# Altium footprint library ResistorsTHD.PcbLib: 21 footprints (part 1 of 2)
Each footprint in its own frame and in the unit in brackets; x right, y up, seen from the top. Pads: shape width x height; smd on the part's side, far side on the other; paste and mask are expansions set on the pad; w line width, h text height; cw(c..) or ccw(c..) is an arc to the next point about the centre after c.
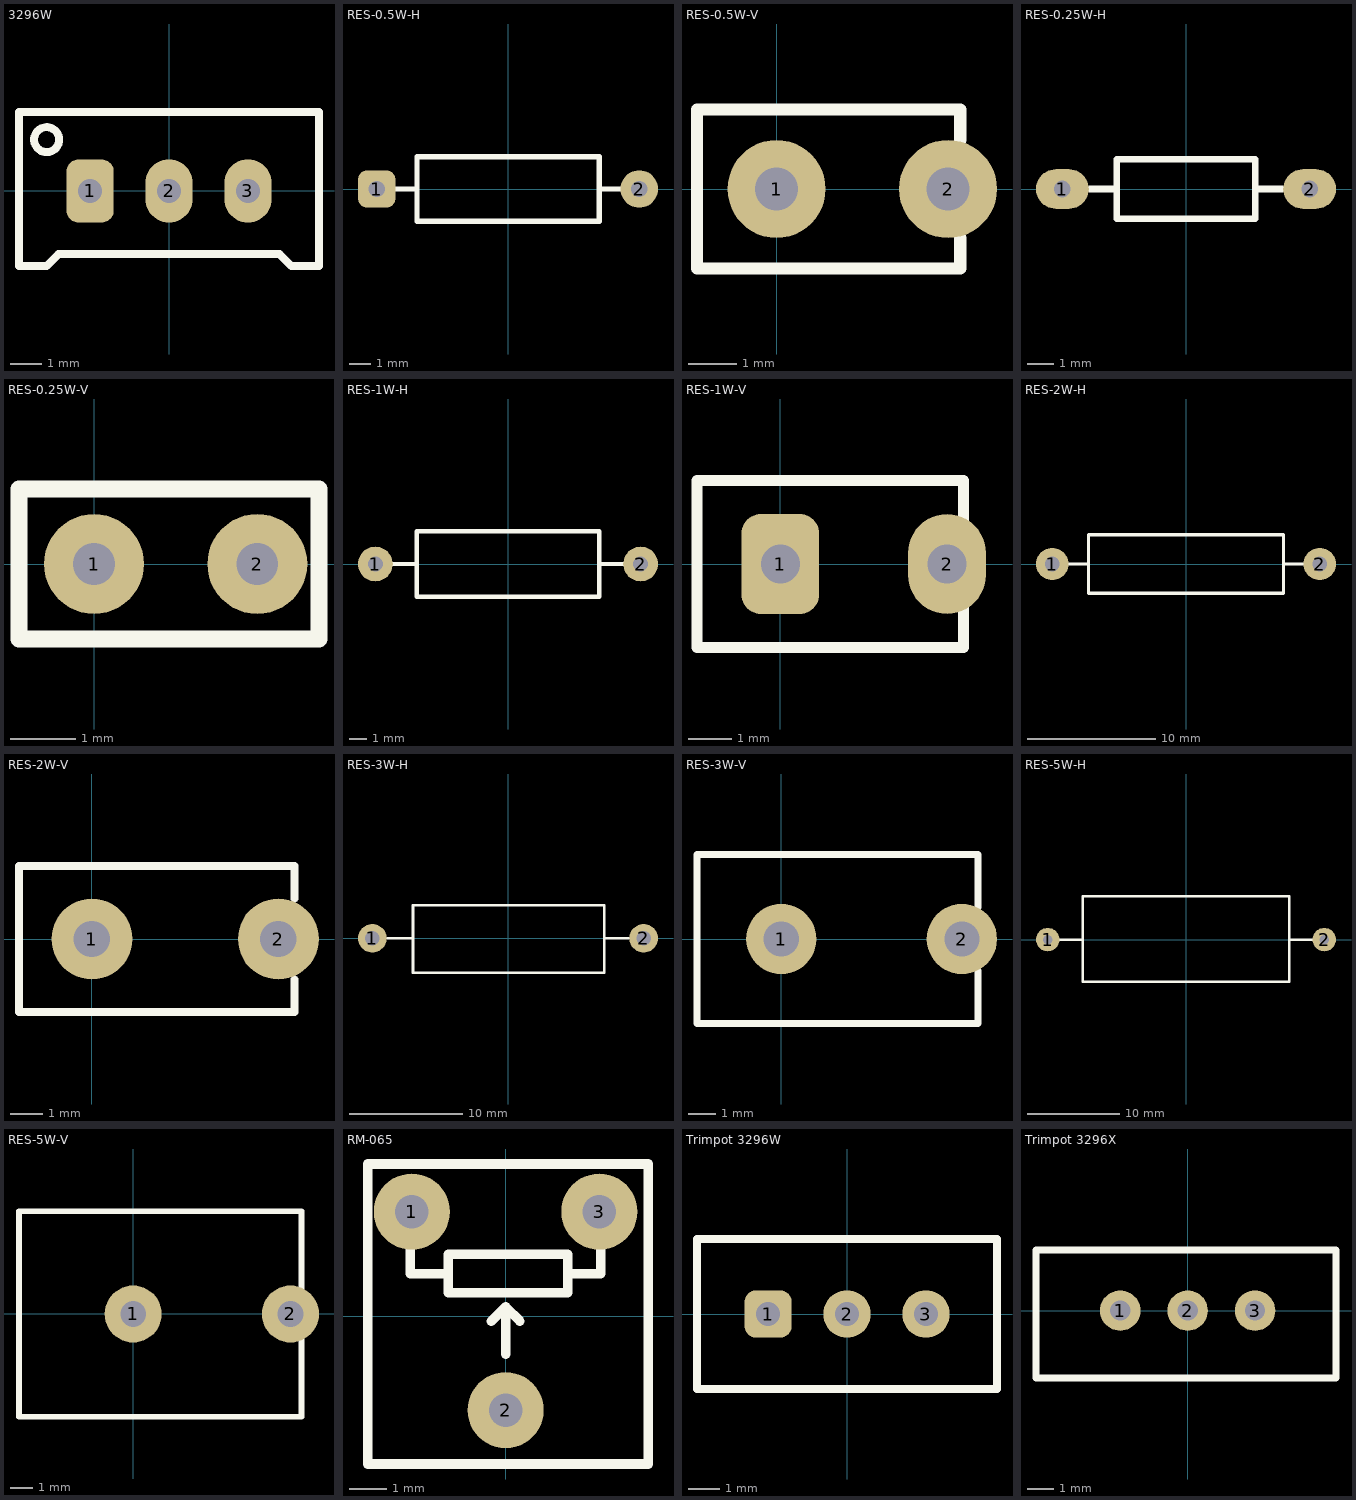
[diagram p0: the footprints below, top view; thin cyan lines are the x and y axes]

## 3296W [mil]
pads (3):
  rrect50% 60x80 hole 30: 1(-100,0)
  oval 60x80 hole 30: 2(0,0) 3(100,0)
Top Overlay:
  circle w10: c-155,65 r15.81
  lines w10: -190,-95 -190,100 190,100 190,-95 155,-95 140,-80 -140,-80 -155,-95 -190,-95
3D body "User Library-bourns 3296 pot.STEP": height 454.72, standoff -251.97, extent -187.6,-93.93 187.59,96.26

## RES-0.5W-H [mil]
pads (2):
  rrect50% 70x70 hole 30: 1(-245,0)
  round 70 hole 30: 2(245,0)
Top Overlay:
  lines w10: -230,0 -170,0 ; 170,0 230,0 ; -170,-60 170,-60 170,60 -170,60 -170,-60
3D body "Resistor_0.5W_H.STEP": height 142.99, standoff -137.75, extent -257.87,-62.99 257.88,63

## RES-0.5W-V [mil]
pads (2):
  round 80 hole 35: 1(0,0) 2(140,0)
Top Overlay:
  lines w10: 150,-40 150,-65 -65,-65 -65,65 150,65 150,40
3D body "Resistor_0.5W_V.STEP": height 452.87, standoff -110.12, extent -62.99,-62.99 151.84,63

## RES-0.25W-H [mil]
pads (2):
  oval 80x60 hole 25: 1(-187,0) 2(187,0)
Top Overlay:
  lines w10: -145,0 -110,0 ; 110,0 145,0 ; -105,-45 105,-45 105,45 -105,45 -105,-45
3D body "Resistor_0.25W_H.STEP": height 109.21, standoff -97.48, extent -198.82,-49.2 198.82,49.22

## RES-0.25W-V [mil]
pads (2):
  round 60 hole 25: 1(0,0) 2(98,0)
Top Overlay:
  lines w10: -45,-45 135,-45 135,45 -45,45 -45,-45
3D body "Resistor_0.25W_V.SLDPRT": height 333.82, standoff -71.69, extent -49.21,-49.21 110.24,49.22

## RES-1W-H [mil]
pads (2):
  round 80 hole 35: 1(-305,0) 2(305,0)
Top Overlay:
  lines w10: -265,0 -210,0 ; 212.5,0 265,0 ; -210,-75 210,-75 210,75 -210,75 -210,-75
3D body "Resistor_1W_H.STEP": height 178.74, standoff -214.46, extent -318.89,-78.73 318.9,78.75

## RES-1W-V [mil]
pads (2):
  rrect50% 70x90 hole 35: 1(0,0)
  oval 70x90 hole 35: 2(150,0)
Top Overlay:
  lines w10: 165,-40 165,-75 -75,-75 -75,75 165,75 165,40
3D body "Resistor_1W_V.SLDPRT": height 553.9, standoff -168.54, extent -78.73,-78.73 163.25,78.75

## RES-2W-H [mil]
pads (2):
  round 100 hole 45: 1(-412,0) 2(412,0)
Top Overlay:
  lines w10: -365,0 -300,0 ; 300,0 365,0 ; -300,-90 -300,90 300,90 300,-90 -300,-90
3D body "Resistor_2W_H.STEP": height 193.88, standoff -170.29, extent -433.06,-88.57 433.08,88.59

## RES-2W-V [mil]
pads (2):
  round 100 hole 45: 1(0,0) 2(230,0)
Top Overlay:
  lines w10: 250,-50 250,-90 -90,-90 -90,90 250,90 250,50
3D body "Resistor_2W_V.STEP": height 433.07, standoff -492.13, extent -88.87,-88.58 249.97,88.59

## RES-3W-H [mil]
pads (2):
  round 100 hole 50: 1(-472,0) 2(472,0)
Top Overlay:
  lines w10: -420,0 -330,0 ; 335,0 420,0 ; -330,-120 335,-120 335,115 -330,115 -330,-120
3D body "Resistor_3W_H.STEP": height 268.11, standoff -225.31, extent -492.12,-118.1 492.13,118.12

## RES-3W-V [mil]
pads (2):
  round 100 hole 50: 1(0,0) 2(257,0)
Top Overlay:
  lines w10: 280,-45 280,-120 -120,-120 -120,120 280,120 280,45
3D body "Resistor_3W_V.STEP": height 872.13, standoff -171.18, extent -118.1,-118.1 276.78,118.12

## RES-5W-H [mil]
pads (2):
  round 100 hole 40: 1(-590,0) 2(590,0)
Top Overlay:
  lines w10: -540,0 -440,0 ; 440,0 540,0 ; -440,-180 -440,185 440,185 440,-180 -440,-180
3D body "Resistor - 5W10RJ.STEP": height 380.43, standoff -320, extent -603.66,-185.04 605,185.04

## RES-5W-V [mil]
pads (2):
  round 100 hole 45: 1(0,0) 2(275.59,0)
Top Overlay:
  lines w10: 295,-45 295,-180 -200,-180 -200,180 295,180 295,45
3D body "Resistor_5W_V.STEP": height 982.28, standoff -295.28, extent -197,-176.33 293.16,178

## RM-065 [mil]
pads (3):
  round 80 hole 35: 1(-98.43,110) 2(0,-98.43) 3(98.43,110)
Top Overlay:
  lines w10: -100,75 -100,45 -60,45 ; -15,-5 0,10 ; 0,-40 0,10 ; 15,-5 0,10 ; 65,45 100,45 100,70 ; -145,-155 -145,160 150,160 150,-155 -145,-155 ; -60,25 -60,65 65,65 65,25 -60,25
3D body "User Library-RM-065.STEP": height 303.15, standoff -122.06, extent -127.95,-146.85 127.96,138.31

## Trimpot 3296W [mil]
pads (3):
  rrect50% 60x60 hole 30: 1(-100,0)
  round 60 hole 30: 2(0,0) 3(100,0)
Top Overlay:
  lines w10: -190,-95 190,-95 190,95 -190,95 -190,-95
3D body "Trimpot 3296W.step": height 453.54, standoff -78.74, extent -188.97,-94.88 188.98,94.89

## Trimpot 3296X [mil]
pads (3):
  round 60 hole 30: 1(-100,0) 2(0,0) 3(100,0)
Top Overlay:
  lines w10: -225,-100 220,-100 220,90 -225,90 -225,-100
3D body "Trimpot 3296X.step": height 393.7, standoff -78.74, extent -218.9,-100 218.9,89.77